# Altium footprint library PressurePulse.PcbLib: 20 footprints (part 2 of 2)
Each footprint in its own frame and in the unit in brackets; x right, y up, seen from the top. Pads: shape width x height; smd on the part's side, far side on the other; paste and mask are expansions set on the pad; w line width, h text height; cw(c..) or ccw(c..) is an arc to the next point about the centre after c.
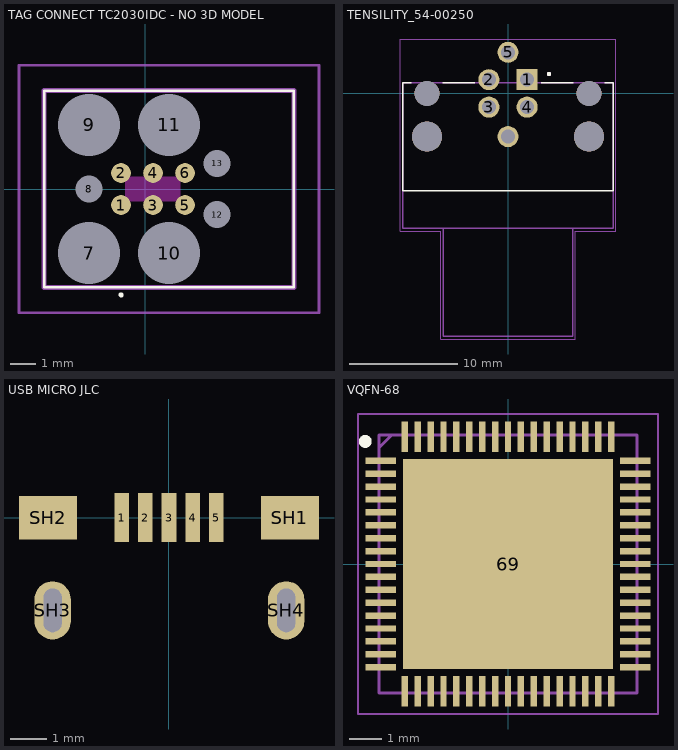
[diagram p1: the footprints below, top view; thin cyan lines are the x and y axes]

## TAG CONNECT TC2030IDC - NO 3D MODEL [mil]
pads (13):
  round 30.83 smd: 1(-37.52,-25) 2(-37.52,25) 3(12.48,-25) 4(12.48,25) 5(62.52,-25) 6(62.52,25)
  round 48.25 hole 96.5 unplated: 7(-87.52,-100) 9(-87.52,100) 10(37.48,-100) 11(37.48,100)
  round 21 hole 42.01 unplated: 8(-87.52,0) 12(112.48,-40) 13(112.48,40)
Top Overlay:
  lines w3.94: -157.48,-153.54 232.28,-153.54 232.28,153.54 -157.48,153.54 -157.48,-153.54 ; -39.37,-165.35 cw(c-37.4,-165.35) -35.43,-165.35 cw(c-37.4,-165.35) -39.37,-165.35
Keep-Out Layer:
  rectangle: -31.5,-19.68 55.12,19.68
Mechanical 13:
  lines w7.87: -157.48,-153.54 232.28,-153.54 232.28,153.54 -157.48,153.54 -157.48,-153.54
Mechanical 15:
  lines w3.94: -196.85,-192.91 271.65,-192.91 271.65,192.91 -196.85,192.91 -196.85,-192.91

## TENSILITY_54-00250 [mm]
height 16
pads (10):
  rect 1.95x1.95 / inner round 1.95 / far side rect 1.95x1.95 hole 1.3 mask+0.05: 1(1.77,1.27)
  round 1.95 hole 1.3 mask+0.05: 2(-1.77,1.27) 3(-1.77,-1.27) 4(1.77,-1.27) 5(0,3.81) SHELL(0,-4)
  round 2.8 hole 2.8 unplated: ""(-7.5,-4) ""(7.5,-4)
  round 2.3 hole 2.3 unplated: ""(-7.5,0) ""(7.5,0)
Top Overlay:
  circle w0.2: c3.8,1.8 r0.1
  lines w0.127: -8.97,1 -9.75,1 -9.75,-9 9.75,-9 9.75,1 8.97,1 ; -6.03,1 -3.1,1 ; 3.1,1 6.03,1
Mechanical 13:
  circle w0.2: c3.8,1.8 r0.1
  lines w0.127: -6,-12.5 -6,-22.5 6,-22.5 6,-12.5 ; -6,-12.5 -9.75,-12.5 -9.75,-9 -9.75,1 9.75,1 9.75,-12.5 6,-12.5 ; -6,-12.5 6,-12.5
Mechanical 15:
  lines w0.05: -10,-12.75 -10,5.04 10,5.04 10,-12.75 6.25,-12.75 6.25,-22.75 -6.25,-22.75 -6.25,-12.75 -10,-12.75
3D body "step_temp.STEP": height 16, standoff -3.5, extent -9.75,-22.5 9.75,4.31

## USB MICRO JLC [mm] "UA0507065250-037-06"
pads (9):
  rect 0.4x1.35 smd mask+0.05: 1(-1.3,0) 2(-0.65,0) 3(0,0) 4(0.65,0) 5(1.3,0)
  rect 1.6x1.2 smd: SH1(3.327,0) SH2(-3.327,0)
  oval 1x1.6 hole 0.5 slot 1.2 at 90 deg: SH3(-3.202,-2.55) SH4(3.225,-2.55)
3D body "1050170001--3DModel-STEP-1.STEP": height 2.75, standoff -0.73, extent -4,-5 4,0.4

## VQFN-68 [mm]
pads (69):
  rect 0.95x0.2 smd mask+0.038: 1(-3.95,3.2) 2(-3.95,2.8) 3(-3.95,2.4) 4(-3.95,2) 5(-3.95,1.6) 6(-3.95,1.2) 7(-3.95,0.8) 8(-3.95,0.4) 9(-3.95,0) 10(-3.95,-0.4) 11(-3.95,-0.8) 12(-3.95,-1.2) 13(-3.95,-1.6) 14(-3.95,-2) 15(-3.95,-2.4) 16(-3.95,-2.8) 17(-3.95,-3.2) 35(3.95,-3.2) 36(3.95,-2.8) 37(3.95,-2.4) 38(3.95,-2) 39(3.95,-1.6) 40(3.95,-1.2) 41(3.95,-0.8) 42(3.95,-0.4) 43(3.95,0) 44(3.95,0.4) 45(3.95,0.8) 46(3.95,1.2) 47(3.95,1.6) 48(3.95,2) 49(3.95,2.4) 50(3.95,2.8) 51(3.95,3.2)
  rect 0.2x0.95 smd mask+0.038: 18(-3.2,-3.95) 19(-2.8,-3.95) 20(-2.4,-3.95) 21(-2,-3.95) 22(-1.6,-3.95) 23(-1.2,-3.95) 24(-0.8,-3.95) 25(-0.4,-3.95) 26(0,-3.95) 27(0.4,-3.95) 28(0.8,-3.95) 29(1.2,-3.95) 30(1.6,-3.95) 31(2,-3.95) 32(2.4,-3.95) 33(2.8,-3.95) 34(3.2,-3.95) 52(3.2,3.95) 53(2.8,3.95) 54(2.4,3.95) 55(2,3.95) 56(1.6,3.95) 57(1.2,3.95) 58(0.8,3.95) 59(0.4,3.95) 60(0,3.95) 61(-0.4,3.95) 62(-0.8,3.95) 63(-1.2,3.95) 64(-1.6,3.95) 65(-2,3.95) 66(-2.4,3.95) 67(-2.8,3.95) 68(-3.2,3.95)
  rect 6.5x6.5 smd mask+0.038: 69(0,0)
Top Overlay:
  circle w0.2: c-4.425,3.8 r0.1
Mechanical 15:
  lines w0.1: -4,3.6 -3.6,4 ; -4,-4 4,-4 4,4 -4,4 -4,-4
Mechanical 20:
  lines w0.05: -4.65,-4.65 4.65,-4.65 4.65,4.65 -4.65,4.65 -4.65,-4.65
3D body "STM32WB55RGV6.stp": height 1, standoff 0, extent -4.05,-4.036 4.05,4.064